# Altium footprint library PcbLib.PcbLib: 32 footprints (part 1 of 2)
Each footprint in its own frame and in the unit in brackets; x right, y up, seen from the top. Pads: shape width x height; smd on the part's side, far side on the other; paste and mask are expansions set on the pad; w line width, h text height; cw(c..) or ccw(c..) is an arc to the next point about the centre after c.
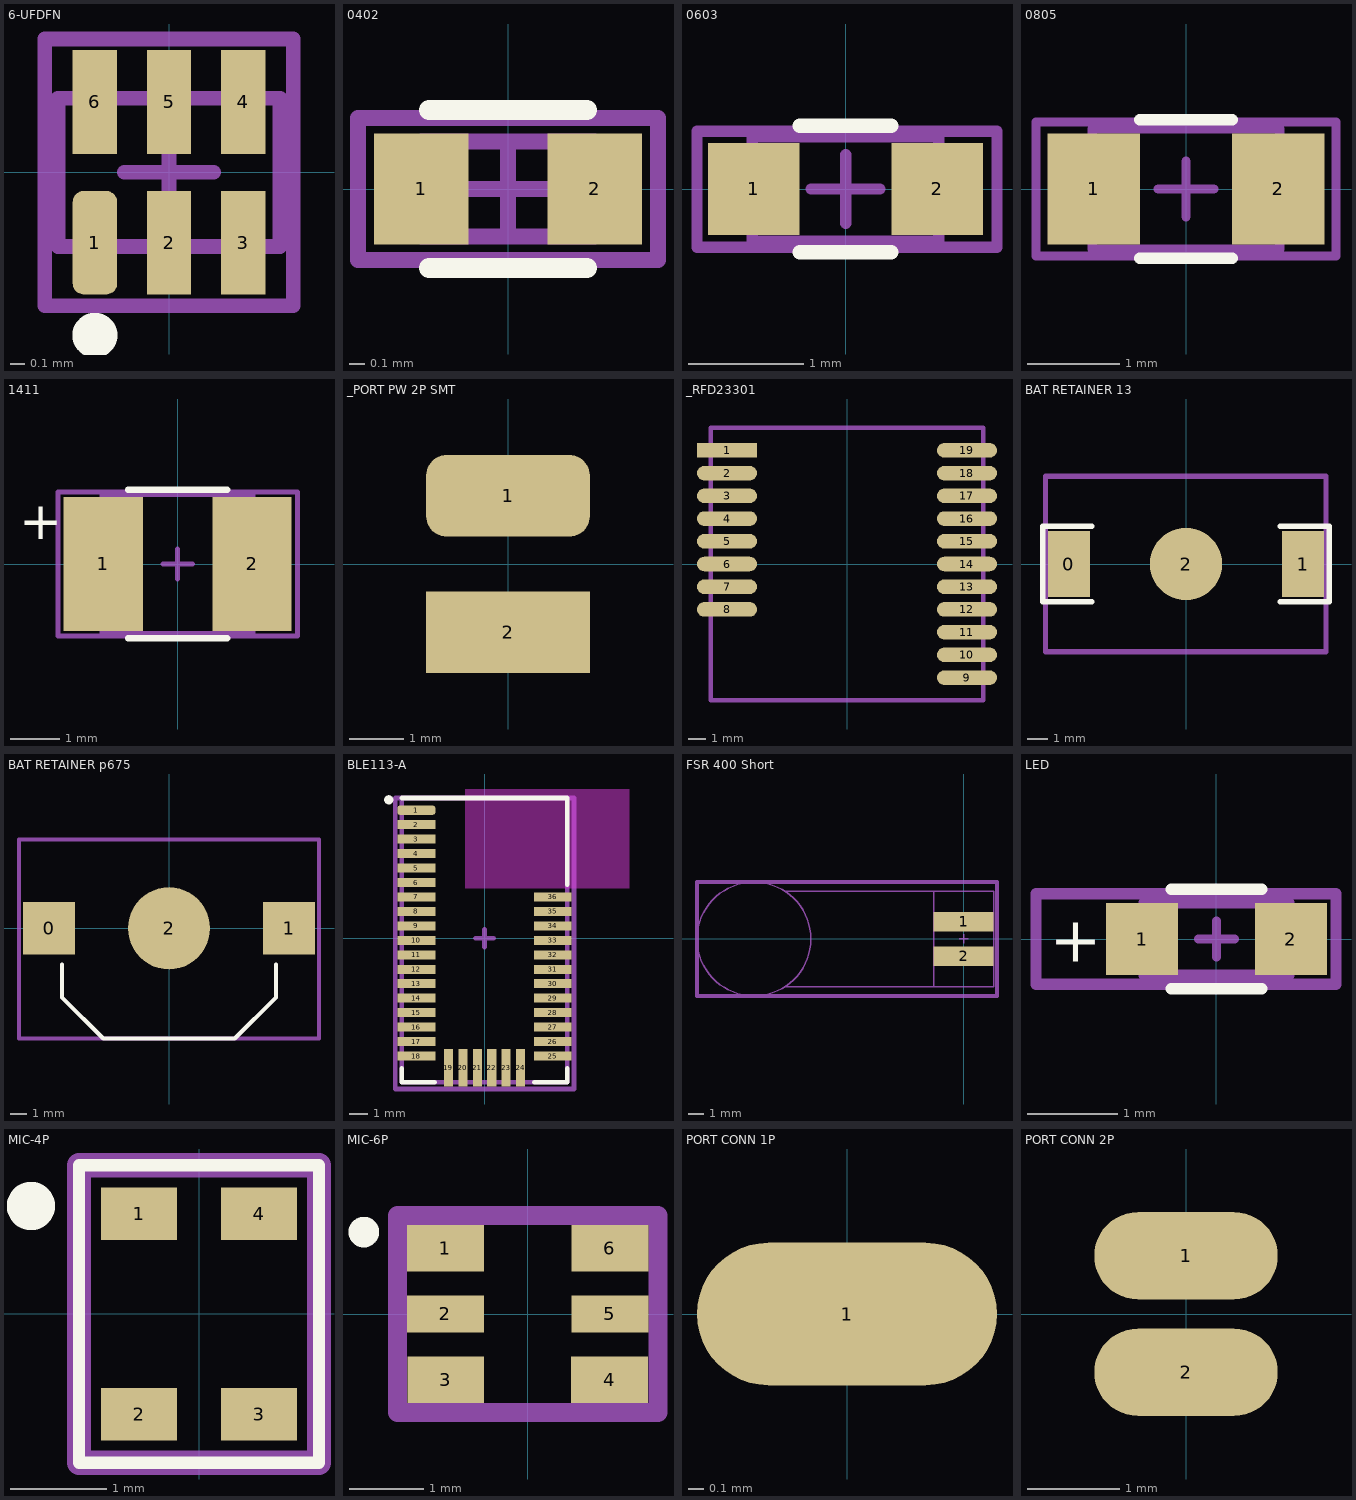
[diagram p0: the footprints below, top view; thin cyan lines are the x and y axes]

## 6-UFDFN [mm] "Body 1.5x1.0mm"
height 0.6
pads (6):
  rrect50% 0.3x0.7 smd mask+0.05: 1(-0.5,-0.475)
  rect 0.3x0.7 smd mask+0.05: 2(0,-0.475) 3(0.5,-0.475) 4(0.5,0.475) 5(0,0.475) 6(-0.5,0.475)
Top Overlay:
  circle w0.254: c-0.5,-1.1 r0.025
Mechanical 13:
  lines w0.1: -0.75,-0.5 0.75,-0.5 0.75,0.5 -0.75,0.5 -0.75,-0.5
Mechanical 15:
  lines w0.1: -0.3,0 0.3,0 ; 0,-0.3 0,0.3 ; -0.838,-0.9 -0.838,0.9 0.838,0.9 0.838,-0.9 -0.838,-0.9
3D body: height 0.6, standoff 0, extent -0.75,-0.5 0.75,0.5

## 0402 [mm] "Body 1.0x0.5mm, IPC High Density"
height 0.55
pads (2):
  rect 0.6x0.7 smd: 1(-0.55,0) 2(0.55,0)
Top Overlay:
  lines w0.127: -0.5,-0.5 0.5,-0.5 ; -0.5,0.5 0.5,0.5
Mechanical 13:
  lines w0.1: -0.55,-0.3 0.55,-0.3 0.55,0.3 -0.55,0.3 -0.55,-0.3
Mechanical 15:
  lines w0.1: -0.3,0 0.3,0 ; 0,-0.3 0,0.3 ; -0.95,-0.45 0.95,-0.45 0.95,0.45 -0.95,0.45 -0.95,-0.45
3D body: height 1.3, standoff 0, extent -0.55,-0.3 0.55,0.3

## 0603 [mm] "Body 1.6x0.8mm, IPC High Density"
height 1
pads (2):
  rect 0.8x0.8 smd: 1(-0.8,0) 2(0.8,0)
Top Overlay:
  lines w0.127: -0.4,-0.55 0.4,-0.55 ; -0.4,0.55 0.4,0.55
Mechanical 13:
  lines w0.1: 0.813,-0.457 0.813,0.457 ; 0.813,-0.457 0.813,-0.457 ; 0.813,-0.457 -0.813,-0.457 -0.813,0.457 0.813,0.457 ; 0.813,0.457 0.813,0.457
Mechanical 15:
  lines w0.1: -0.3,0 0.3,0 ; 0,-0.3 0,0.3 ; -1.295,-0.508 1.321,-0.508 1.321,0.502 -1.295,0.502 -1.295,-0.508
3D body: height 1.3, standoff 0, extent -0.813,-0.457 0.813,0.457

## 0805 [mm] "Body 2.0x1.25mm, IPC High Density"
height 1.25
pads (2):
  rect 1x1.2 smd: 1(-1,0) 2(1,0)
Top Overlay:
  lines w0.127: -0.5,-0.75 0.5,-0.75 ; -0.5,0.75 0.5,0.75
Mechanical 13:
  lines w0.1: -1.016,-0.65 -1.016,0.65 1.016,0.65 1.016,-0.65 -1.016,-0.65
Mechanical 15:
  lines w0.1: -0.3,0 0.3,0 ; 0,-0.3 0,0.3 ; -1.625,-0.725 -1.625,0.725 1.625,0.725 1.625,-0.725 -1.625,-0.725
3D body: height 1.3, standoff 0, extent -1.016,-0.65 1.016,0.65

## 1411 [mm] "Body 3.5x2.8mm, IPC High Density"
height 2
pads (2):
  rect 1.6x2.7 smd: 1(-1.5,0) 2(1.5,0)
Top Overlay:
  lines w0.127: -1,-1.5 1,-1.5 ; -1,1.5 1,1.5
  text "+" at -3.2,0.5 h0.76
Mechanical 13:
  lines w0.1: -1.524,-1.397 -1.524,1.397 1.524,1.397 1.524,-1.397 -1.524,-1.397
Mechanical 15:
  lines w0.1: -0.3,0 0.3,0 ; 0,-0.3 0,0.3 ; -2.413,-1.448 -2.413,1.448 2.413,1.448 2.413,-1.448 -2.413,-1.448
3D body: height 1.3, standoff 0, extent -1.524,-1.397 1.524,1.397

## _PORT PW 2P SMT [mm]
pads (2):
  rrect50% 3x1.5 smd paste-1.524: 1(0,1.25)
  rect 3x1.5 smd paste-1.524: 2(0,-1.25)

## _RFD23301 [mil]
height 107
pads (19):
  rect 132x32 smd: 1(-264,250)
  oval 132x32 smd: 2(-264,200) 3(-264,150) 4(-264,100) 5(-264,50) 6(-264,0) 7(-264,-50) 8(-264,-100) 9(264,-250) 10(264,-200) 11(264,-150) 12(264,-100) 13(264,-50) 14(264,0) 15(264,50) 16(264,100) 17(264,150) 18(264,200) 19(264,250)
Mechanical 13:
  lines w10: -300,-300 -300,300 300,300 300,-300 -300,-300
3D body: height 32, standoff 0, extent -300,-300 300,300
3D body: height 85, standoff 32, extent -245,-150 245,245
3D body: height 85, standoff 32, extent -245,-265 50,-195

## BAT RETAINER 13 [mm] "Body 13.36x12.07mm"
height 5.72
pads (3):
  rect 2.03x3.18 smd: 0(-5.665,0) 1(5.665,0)
  round 3.5 smd paste-5 mask+2.5: 2(0,0)
Top Overlay:
  lines w0.254: -4.55,-1.825 -6.925,-1.825 -6.925,1.825 -4.55,1.825 ; 4.55,-1.825 6.925,-1.825 6.925,1.825 4.55,1.825
Mechanical 15:
  lines w0.254: -6.8,-4.25 -6.8,4.25 6.775,4.25 6.775,-4.25 -6.8,-4.25
3D body "keystone-PN2988.STEP": height 5.95, standoff 0.24, extent -6.68,-3.15 6.68,4.213

## BAT RETAINER p675 [mm] "Body 17.78x12.07mm"
height 5.97
pads (3):
  rect 3.18x3.18 smd: 0(-7.3,0) 1(7.3,0)
  round 5 smd paste-5 mask+3: 2(0,0)
Top Overlay:
  lines w0.254: -6.5,-2.2 -6.5,-4.2 -4,-6.7 4,-6.7 6.5,-4.2 6.5,-2.2
Mechanical 15:
  lines w0.254: -9.125,-6.7 -9.125,5.4 9.125,5.4 9.125,-6.7 -9.125,-6.7
3D body "keystone-PN3096.STEP": height 5.95, standoff -0.02, extent -8.89,-6.708 8.89,5.357

## BLE113-A [mm] "Body 15.725x9.15mm"
height 1.9
pads (36):
  rrect50% 2.1x0.5 smd: 1(-3.775,7.075)
  rect 2.1x0.5 smd: 2(-3.775,6.275) 3(-3.775,5.475) 4(-3.775,4.675) 5(-3.775,3.875) 6(-3.775,3.075) 7(-3.775,2.275) 8(-3.775,1.475) 9(-3.775,0.675) 10(-3.775,-0.125) 11(-3.775,-0.925) 12(-3.775,-1.725) 13(-3.775,-2.525) 14(-3.775,-3.325) 15(-3.775,-4.125) 16(-3.775,-4.925) 17(-3.775,-5.725) 18(-3.775,-6.525) 25(3.775,-6.525) 26(3.775,-5.725) 27(3.775,-4.925) 28(3.775,-4.125) 29(3.775,-3.325) 30(3.775,-2.525) 31(3.775,-1.725) 32(3.775,-0.925) 33(3.775,-0.125) 34(3.775,0.675) 35(3.775,1.475) 36(3.775,2.275)
  rect 0.5x2.1 smd: 19(-2,-7.175) 20(-1.2,-7.175) 21(-0.4,-7.175) 22(0.4,-7.175) 23(1.2,-7.175) 24(2,-7.175)
Top Overlay:
  circle w0.254: c-5.3,7.65 r0.127
  lines w0.254: -4.575,-7.2 -4.575,-7.975 -2.75,-7.975 ; -4.575,7.75 4.575,7.75 4.575,2.95 ; 2.75,-7.975 4.575,-7.975 4.575,-7.2
Keep-Out Layer:
  rectangle: -1.075,2.75 8.025,8.25
Mechanical 13:
  lines w0.254: -4.575,-7.975 -4.575,7.75 4.575,7.75 4.575,-7.975 -4.575,-7.975
Mechanical 15:
  lines w0.254: -0.5,0 0.5,0 ; 0,-0.5 0,0.5 ; -4.95,-8.35 -4.95,7.75 4.95,7.75 4.95,-8.35 -4.95,-8.35
3D body: height 1.9, standoff 0, extent -4.575,-7.975 4.575,7.75

## FSR 400 Short [mm] "5mm Circle x 20mm"
height 0.3
pads (2):
  rect 4x1.3 smd: 1(0,1.15) 2(0,-1.15)
Mechanical 13:
  circle w0.1: c-14,0 r3.8
  lines w0.1: -11.9,-3.175 -2,-3.175 ; -11.9,3.175 -2,3.175 ; -2,-3.175 2,-3.175 2,3.175 -2,3.175 ; -2,-3.175 -2,3.175
Mechanical 15:
  lines w0.1: -0.3,0 0.3,0 ; 0,-0.3 0,0.3
  lines w0.254: -17.8,3.799 2.225,3.799 2.225,-3.801 ; -17.8,3.8 -17.8,-3.8 2.225,-3.8
3D body: height 0.3, standoff 0, extent -17.8,-3.799 -10.2,3.799
3D body: height 0.3, standoff 0, extent -12,-3.2 -2,3.2

## LED [mm] "SMT LED; 2 Flat Leads"
height 1.2
pads (2):
  rect 0.8x0.8 smd: 1(-0.825,0) 2(0.825,0)
Top Overlay:
  lines w0.127: -0.5,-0.55 0.5,-0.55 ; -0.5,0.55 0.5,0.55
  text "+" at -1.85,-0.25 h0.5
Mechanical 13:
  lines w0.127: -0.8,-0.4 -0.8,0.4 0.8,0.4 0.8,-0.4 -0.8,-0.4
Mechanical 15:
  lines w0.1: -0.2,0 0.2,0 ; 0,-0.2 0,0.2
  lines w0.127: -2,-0.5 -2,0.5 1.325,0.5 1.325,-0.5 -2,-0.5
3D body: height 0.65, standoff 0, extent -0.8,-0.4 0.8,0.4

## MIC-4P [mm]
height 1.25
pads (4):
  rect 0.79x0.55 smd: 1(-0.625,1.045) 2(-0.625,-1.045) 3(0.625,-1.045) 4(0.625,1.045)
Top Overlay:
  circle w0.254: c-1.75,1.125 r0.125
  lines w0.127: 1.25,-1.55 -1.25,-1.55 -1.25,1.55 1.25,1.55 1.25,-1.55
Mechanical 13:
  lines w0.254: -1.25,-1.55 -1.25,1.55 1.25,1.55 1.25,-1.55 -1.25,-1.55
Mechanical 15:
  lines w0.254: -1.25,-1.55 1.25,-1.55 1.25,1.55 -1.25,1.55 -1.25,-1.55
3D body: height 1.25, standoff 0, extent -1.25,-1.55 1.25,1.55

## MIC-6P [mm]
height 1.25
pads (6):
  rect 1.032x0.622 smd: 1(-1.104,0.884) 3(-1.1,-0.884) 4(1.1,-0.884) 6(1.104,0.884)
  rect 1.032x0.5 smd: 2(-1.104,0.001) 5(1.104,0.001)
Top Overlay:
  circle w0.254: c-2.2,1.1 r0.079
Mechanical 13:
  lines w0.254: -1.75,-1.325 1.75,-1.325 1.75,1.325 -1.75,1.325 -1.75,-1.325
Mechanical 15:
  lines w0.254: -1.75,-1.325 -1.75,1.325 1.75,1.325 1.75,-1.325 -1.75,-1.325
3D body: height 1.25, standoff 0, extent -1.75,-1.325 1.75,1.325

## PORT CONN 1P [mm] "Body 2x0.95mm"
pads (1):
  oval 2x0.95 smd paste-10: 1(0,0)

## PORT CONN 2P [mm] "Body 1.2x2mm"
pads (2):
  oval 2x0.95 smd paste-10: 1(0,0.635) 2(0,-0.635)